# Altium schematic symbol library 2020-04-06_20-05-45.SchLib: 2 symbols
Pins are listed as number, name and electrical type; pins without a type are passive.

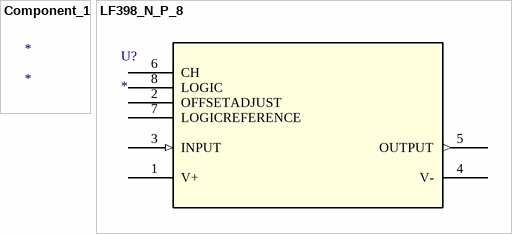
[diagram p0: symbols Component_1 to LF398_N_P_8]

## Component_1
designator *

## LF398_N_P_8
designator U?
Imported; Manufacturer_Part_Number: lf398-n_p_8; Vendor: Texas Instruments; Value: Value; Type: Type; RefDes: RefDes
footprint P8
pins: 1 V+ (power), 2 OFFSETADJUST, 3 INPUT (in), 4 V- (power), 5 OUTPUT (out), 6 CH, 7 LOGICREFERENCE, 8 LOGIC